# Altium footprint library ADF4351.PcbLib: 1 footprints
Each footprint in its own frame and in the unit in brackets; x right, y up, seen from the top. Pads: shape width x height; smd on the part's side, far side on the other; paste and mask are expansions set on the pad; w line width, h text height; cw(c..) or ccw(c..) is an arc to the next point about the centre after c.
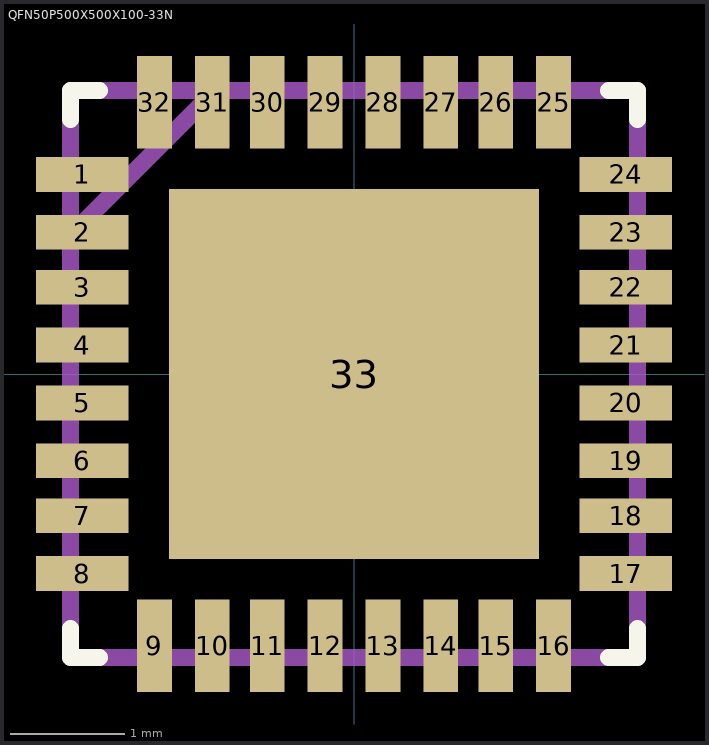
[diagram p0: the footprint, top view; thin cyan lines are the x and y axes]

## QFN50P500X500X100-33N [mil]
pads (33):
  rect 32x12 smd: 1(-94,69) 2(-94,49) 3(-94,30) 4(-94,10) 5(-94,-10) 6(-94,-30) 7(-94,-49) 8(-94,-69) 17(94,-69) 18(94,-49) 19(94,-30) 20(94,-10) 21(94,10) 22(94,30) 23(94,49) 24(94,69)
  rect 12x32 smd: 9(-69,-94) 10(-49,-94) 11(-30,-94) 12(-10,-94) 13(10,-94) 14(30,-94) 15(49,-94) 16(69,-94) 25(69,94) 26(49,94) 27(30,94) 28(10,94) 29(-10,94) 30(-30,94) 31(-49,94) 32(-69,94)
  rect 128x128 smd: 33(0,0)
Top Overlay:
  lines w6: -98,-88 -98,-98 -88,-98 ; -98,88 -98,98 -88,98 ; 88,-98 98,-98 98,-88 ; 88,98 98,98 98,88
Mechanical 13:
  lines w6: -98,-75 -98,-63 ; -98,-55 -98,-43 ; -98,-36 -98,-24 ; -98,-16 -98,-4 ; -98,4 -98,16 ; -98,24 -98,36 ; -98,43 -98,55 ; -98,48 -48,98 ; -98,63 -98,75 ; -75,-98 -63,-98 ; -75,98 -63,98 ; -55,-98 -43,-98 ; -55,98 -43,98 ; -36,-98 -24,-98 ; -36,98 -24,98 ; -16,-98 -4,-98 ; -16,98 -4,98 ; 4,-98 16,-98 ; 4,98 16,98 ; 24,-98 36,-98 ; 24,98 36,98 ; 43,-98 55,-98 ; 43,98 55,98 ; 63,-98 75,-98 ; 63,98 75,98 ; 98,-75 98,-63 ; 98,-55 98,-43 ; 98,-36 98,-24 ; 98,-16 98,-4 ; 98,4 98,16 ; 98,24 98,36 ; 98,43 98,55 ; 98,63 98,75 ; -98,-98 -98,98 98,98 98,-98 -98,-98